# Altium schematic symbol library BATTERIJ HOUDERS.SchLib: 1 symbol
Pins are listed as number, name and electrical type; pins without a type are passive.

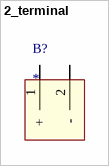
[diagram p0: symbol 2_terminal]

## 2_terminal
designator B?
pins: 1 +, 2 -